# EAGLE library part CC1000-UCSP (library chipcon-ti-v2-alliv)
Single Chip Very Low Power RF Transceiver in ULTRA-CSP package
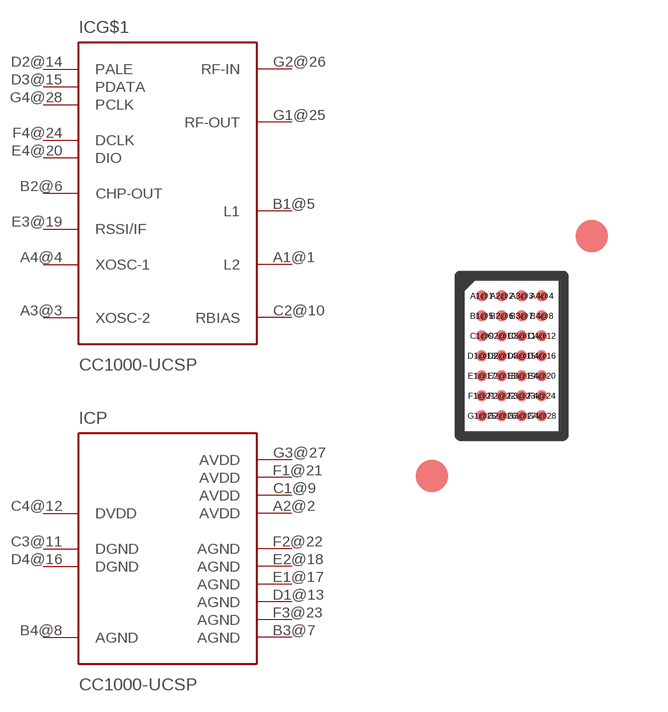
[diagram p3: symbol with the pads of ULTRA-CSP; footprint ULTRA-CSP]

Designator prefix IC; gates G$1=CC1000 P=CC1000-PWR

## CC1000-UCSP  [ULTRA-CSP]
A1@1  G$1:L2  in
A2@2  P:AVDD  pwr
A3@3  G$1:XOSC-2  out
A4@4  G$1:XOSC-1  in
B1@5  G$1:L1  in
B2@6  G$1:CHP-OUT  out
B3@7  P:AGND  pwr
B4@8  P:AGND  pwr
C1@9  P:AVDD  pwr
C2@10  G$1:RBIAS  out
C3@11  P:DGND  pwr
C4@12  P:DVDD  pwr
D1@13  P:AGND  pwr
D2@14  G$1:PALE  in
D3@15  G$1:PDATA
D4@16  P:DGND  pwr
E1@17  P:AGND  pwr
E2@18  P:AGND  pwr
E3@19  G$1:RSSI/IF  out
E4@20  G$1:DIO
F1@21  P:AVDD  pwr
F2@22  P:AGND  pwr
F3@23  P:AGND  pwr
F4@24  G$1:DCLK  out
G1@25  G$1:RF-OUT  out
G2@26  G$1:RF-IN  in
G3@27  P:AVDD  pwr
G4@28  G$1:PCLK  in

## Footprint ULTRA-CSP (pad centres in mm)
ULTRACSP
smd 0.26 x 0.26: A1@1 -0.75,1.5; A2@2 -0.25,1.5; A3@3 0.25,1.5; A4@4 0.75,1.5; B1@5 -0.75,1; B2@6 -0.25,1; B3@7 0.25,1; B4@8 0.75,1; C1@9 -0.75,0.5; C2@10 -0.25,0.5; C3@11 0.25,0.5; C4@12 0.75,0.5; D1@13 -0.75,0; D2@14 -0.25,0; D3@15 0.25,0; D4@16 0.75,0; E1@17 -0.75,-0.5; E2@18 -0.25,-0.5; E3@19 0.25,-0.5; E4@20 0.75,-0.5; F1@21 -0.75,-1; F2@22 -0.25,-1; F3@23 0.25,-1; F4@24 0.75,-1; G1@25 -0.75,-1.5; G2@26 -0.25,-1.5; G3@27 0.25,-1.5; G4@28 0.75,-1.5